# EAGLE library part SAMACSYS_PARTS_973 (library ネオぴゅう太_ReplaceLibParts)
RCA Phono Connectors RCA PCB JACK YELLOW Source: Datasheet <https://componentsearchengine.com/Datasheets/1/973.pdf>
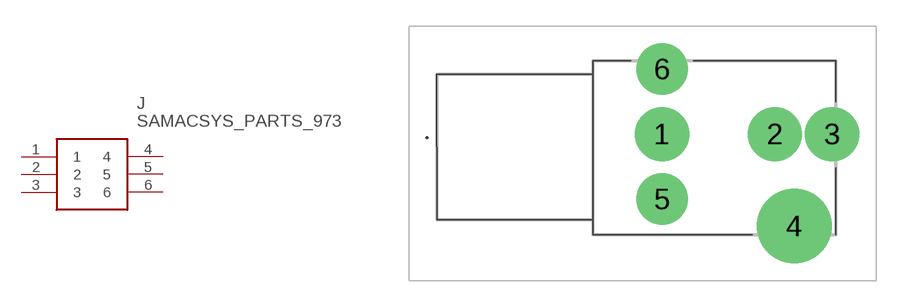
[diagram p8: symbol with the pads of SAMACSYS_PARTS_973_1; footprint SAMACSYS_PARTS_973_1]

Designator prefix J

## SAMACSYS_PARTS_973 (DESCRIPTION: RCA Phono Connectors RCA PCB JACK YELLOW; HEIGHT: mm; MANUFACTURER_NAME: Keystone Electronics; MANUFACTURER_PART_NUMBER: 973; MOUSER_PART_NUMBER: 534-973; MOUSER_PRICE-STOCK: https://www.mouser.co.uk/ProductDetail/Keystone-Electronics/973?qs=sOYabIlKNmcMm%252BHv8SuOtQ%3D%3D)  [SAMACSYS_PARTS_973_1]
1  1
2  2
3  3
4  4
5  5
6  6

## Footprint SAMACSYS_PARTS_973_1 (pad centres in mm)
973-1
drill 2.08 pad 3.12: 1 0,0; 2 6.5,0; 3 9.8,0
drill 2.87 pad 4.305: 4 7.62,-5.299
drill 1.98 pad 2.97: 5 0,-3.745; 6 0,3.745